# Altium integrated library TI_Logic_Specialty_Logic.IntLib: 2504 symbols (part 8 of 81)
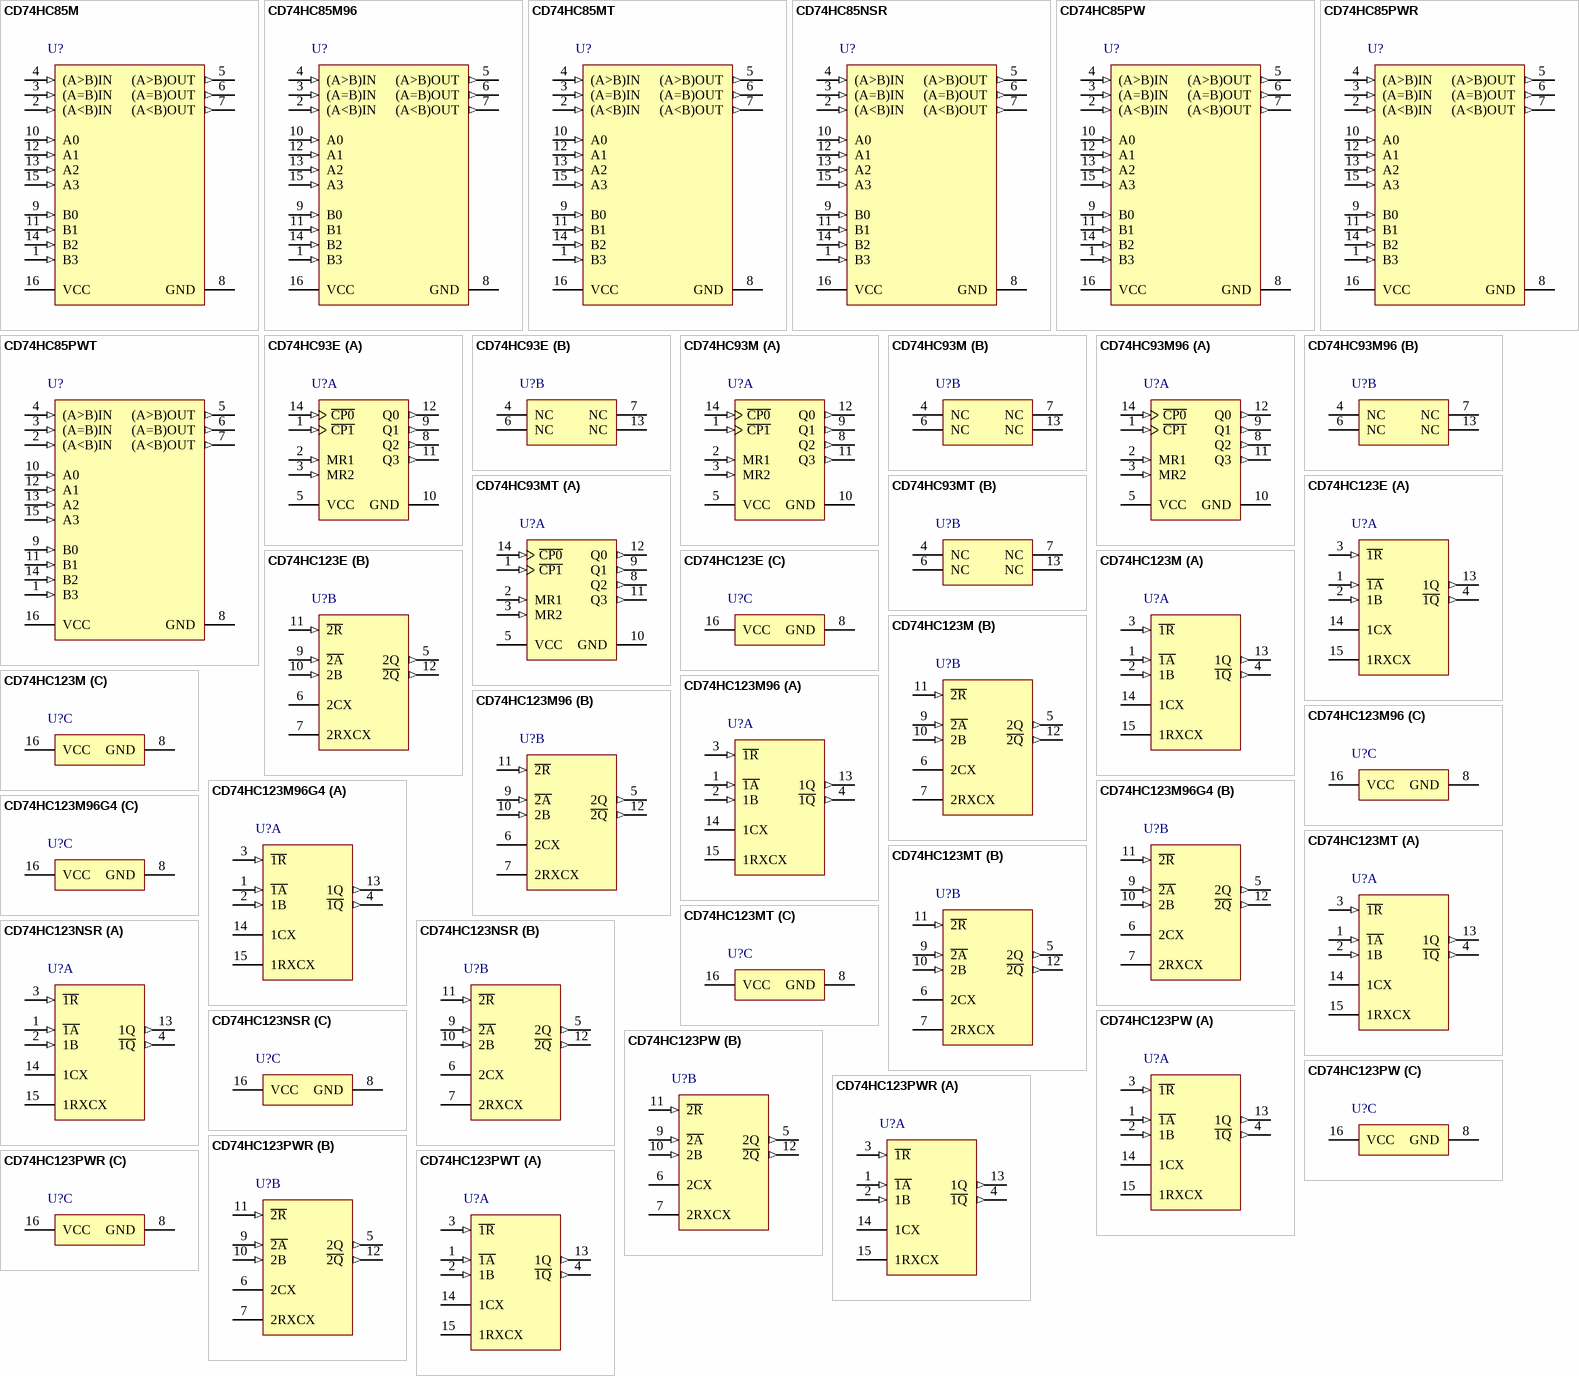
[diagram p111: symbols CD74HC85M to CD74HC123PWT]

## CD74HC123MT
designator U?
High Speed CMOS Logic Dual Retriggerable Monostable Multivibrators with Reset, D0016A, SMALL T&R; Generic Part Number: CD74HC123; Manufacturer: Texas Instruments; PartNumber: CD74HC123MT; VCC(Min)(V): 2; VCC(Max)(V): 6; ICC @ Nom Voltage(Max)(mA): 0.08; Input Type: LVTTL/CMOS; F @ Nom Voltage(Max)(Mhz): 70; Rating: Catalog; Technology Family: HC; Voltage(Nom)(V): 3.3,5; Schmitt Trigger: No; Output Drive (IOL/IOH)(Max)(mA): 5.2/-5.2; tpd @ Nom Voltage(Max)(ns): 68; DatasheetVersion: SCHS142F; PackageReference: D0016A; Supplier 1: Mouser; Supplier Part Number 1: 595-CD74HC123MT; Supplier 2: Digi-Key; Supplier Part Number 2: 296-32053-2-ND; Supplier 3: Digi-Key; Supplier Part Number 3: 296-32053-1-ND; Supplier 4: Digi-Key; Supplier Part Number 4: 296-32053-6-ND; Output Type: CMOS; Bits(#): 2; Operating Temperature Range(C): -55 to 125; Code_JEDEC: MS-012 variation AC; ComponentLink1Description: Manufacturer URL; ComponentLink1URL: http://www.ti.com/; ComponentLink2Description: Datasheet; ComponentLink2URL: http://www.ti.com/lit/ds/symlink/cd74hc123.pdf; ComponentLink3Description: Package Specification; ComponentLink3URL: http://www.ti.com/lit/ml/mpds178g/mpds178g.pdf
footprint D0016A_N (SOIC, 16-Leads, Body 10x4mm, Pitch 1.27mm, IPC Medium Density)
footprint D0016A_M (SOIC, 16-Leads, Body 10x4mm, Pitch 1.27mm, IPC Low Density)
footprint D0016A_L (SOIC, 16-Leads, Body 10x4mm, Pitch 1.27mm, IPC High Density)
part A pins: 1 ~{1A} (in), 2 1B (in), 3 ~{1R} (in), 4 ~{1Q} (out), 13 1Q (out), 14 1CX, 15 1RXCX
part B pins: 5 2Q (out), 6 2CX, 7 2RXCX, 9 ~{2A} (in), 10 2B (in), 11 ~{2R} (in), 12 ~{2Q} (out)
part C pins: 8 GND (power), 16 VCC (power)

## CD74HC123NSR
designator U?
High Speed CMOS Logic Dual Retriggerable Monostable Multivibrators with Reset, NS0016A, LARGE T&R; Generic Part Number: CD74HC123; Manufacturer: Texas Instruments; PartNumber: CD74HC123NSR; VCC(Min)(V): 2; VCC(Max)(V): 6; ICC @ Nom Voltage(Max)(mA): 0.08; Input Type: LVTTL/CMOS; F @ Nom Voltage(Max)(Mhz): 70; Rating: Catalog; Technology Family: HC; Voltage(Nom)(V): 3.3,5; Schmitt Trigger: No; Output Drive (IOL/IOH)(Max)(mA): 5.2/-5.2; tpd @ Nom Voltage(Max)(ns): 68; DatasheetVersion: SCHS142F; PackageReference: NS0016A; Supplier 1: Mouser; Supplier Part Number 1: 595-CD74HC123NSR; Supplier 2: Digi-Key; Supplier Part Number 2: 296-31564-2-ND; Supplier 3: Digi-Key; Supplier Part Number 3: 296-31564-1-ND; Supplier 4: Digi-Key; Supplier Part Number 4: 296-31564-6-ND; Output Type: CMOS; Bits(#): 2; Operating Temperature Range(C): -55 to 125; ComponentLink1Description: Manufacturer URL; ComponentLink1URL: http://www.ti.com/; ComponentLink2Description: Datasheet; ComponentLink2URL: http://www.ti.com/lit/ds/symlink/cd74hc123.pdf; ComponentLink3Description: Package Specification; ComponentLink3URL: http://www.ti.com/lit/ml/msop002a/msop002a.pdf
footprint NS0016A_N (SOIC,16-Leads,Body 10.5x5.6mm,Pitch 1.27mm,IPC Medium Density)
footprint NS0016A_M (SOIC,16-Leads,Body 10.5x5.6mm,Pitch 1.27mm,IPC Low Density)
footprint NS0016A_L (SOIC,16-Leads,Body 10.5x5.6mm,Pitch 1.27mm,IPC High Density)
part A pins: 1 ~{1A} (in), 2 1B (in), 3 ~{1R} (in), 4 ~{1Q} (out), 13 1Q (out), 14 1CX, 15 1RXCX
part B pins: 5 2Q (out), 6 2CX, 7 2RXCX, 9 ~{2A} (in), 10 2B (in), 11 ~{2R} (in), 12 ~{2Q} (out)
part C pins: 8 GND (power), 16 VCC (power)

## CD74HC123PW
designator U?
High Speed CMOS Logic Dual Retriggerable Monostable Multivibrators with Reset, PW0016A, TUBE; Generic Part Number: CD74HC123; Manufacturer: Texas Instruments; PartNumber: CD74HC123PW; VCC(Min)(V): 2; VCC(Max)(V): 6; ICC @ Nom Voltage(Max)(mA): 0.08; Input Type: LVTTL/CMOS; F @ Nom Voltage(Max)(Mhz): 70; Rating: Catalog; Technology Family: HC; Voltage(Nom)(V): 3.3,5; Schmitt Trigger: No; Output Drive (IOL/IOH)(Max)(mA): 5.2/-5.2; tpd @ Nom Voltage(Max)(ns): 68; DatasheetVersion: SCHS142F; PackageReference: PW0016A; Supplier 1: Mouser; Supplier Part Number 1: 595-CD74HC123PW; Supplier 2: Digi-Key; Supplier Part Number 2: 296-25971-5-ND; Output Type: CMOS; Bits(#): 2; Operating Temperature Range(C): -55 to 125; Code_JEDEC: MO-153; ComponentLink1Description: Manufacturer URL; ComponentLink1URL: http://www.ti.com/; ComponentLink2Description: Datasheet; ComponentLink2URL: http://www.ti.com/lit/ds/symlink/cd74hc123.pdf; ComponentLink3Description: Package Specification; ComponentLink3URL: http://www.ti.com/lit/ml/mpds361/mpds361.pdf
footprint PW0016A_N (SOP, 16-Leads, Body 5.1x4.5mm, Pitch 0.65mm, IPC Medium Density)
footprint PW0016A_M (SOP, 16-Leads, Body 5.1x4.5mm, Pitch 0.65mm, IPC Low Density)
footprint PW0016A_L (SOP, 16-Leads, Body 5.1x4.5mm, Pitch 0.65mm, IPC High Density)
part A pins: 1 ~{1A} (in), 2 1B (in), 3 ~{1R} (in), 4 ~{1Q} (out), 13 1Q (out), 14 1CX, 15 1RXCX
part B pins: 5 2Q (out), 6 2CX, 7 2RXCX, 9 ~{2A} (in), 10 2B (in), 11 ~{2R} (in), 12 ~{2Q} (out)
part C pins: 8 GND (power), 16 VCC (power)

## CD74HC123PWR
designator U?
High Speed CMOS Logic Dual Retriggerable Monostable Multivibrators with Reset, PW0016A, LARGE T&R; Generic Part Number: CD74HC123; Manufacturer: Texas Instruments; PartNumber: CD74HC123PWR; VCC(Min)(V): 2; VCC(Max)(V): 6; ICC @ Nom Voltage(Max)(mA): 0.08; Input Type: LVTTL/CMOS; F @ Nom Voltage(Max)(Mhz): 70; Rating: Catalog; Technology Family: HC; Voltage(Nom)(V): 3.3,5; Schmitt Trigger: No; Output Drive (IOL/IOH)(Max)(mA): 5.2/-5.2; tpd @ Nom Voltage(Max)(ns): 68; DatasheetVersion: SCHS142F; PackageReference: PW0016A; Supplier 1: Mouser; Supplier Part Number 1: 595-CD74HC123PWR; Supplier 2: Digi-Key; Supplier Part Number 2: 296-12780-2-ND; Supplier 3: Digi-Key; Supplier Part Number 3: 296-12780-1-ND; Supplier 4: Digi-Key; Supplier Part Number 4: 296-12780-6-ND; Output Type: CMOS; Bits(#): 2; Operating Temperature Range(C): -55 to 125; Code_JEDEC: MO-153; ComponentLink1Description: Manufacturer URL; ComponentLink1URL: http://www.ti.com/; ComponentLink2Description: Datasheet; ComponentLink2URL: http://www.ti.com/lit/ds/symlink/cd74hc123.pdf; ComponentLink3Description: Package Specification; ComponentLink3URL: http://www.ti.com/lit/ml/mpds361/mpds361.pdf
footprint PW0016A_N (SOP, 16-Leads, Body 5.1x4.5mm, Pitch 0.65mm, IPC Medium Density)
footprint PW0016A_M (SOP, 16-Leads, Body 5.1x4.5mm, Pitch 0.65mm, IPC Low Density)
footprint PW0016A_L (SOP, 16-Leads, Body 5.1x4.5mm, Pitch 0.65mm, IPC High Density)
part A pins: 1 ~{1A} (in), 2 1B (in), 3 ~{1R} (in), 4 ~{1Q} (out), 13 1Q (out), 14 1CX, 15 1RXCX
part B pins: 5 2Q (out), 6 2CX, 7 2RXCX, 9 ~{2A} (in), 10 2B (in), 11 ~{2R} (in), 12 ~{2Q} (out)
part C pins: 8 GND (power), 16 VCC (power)

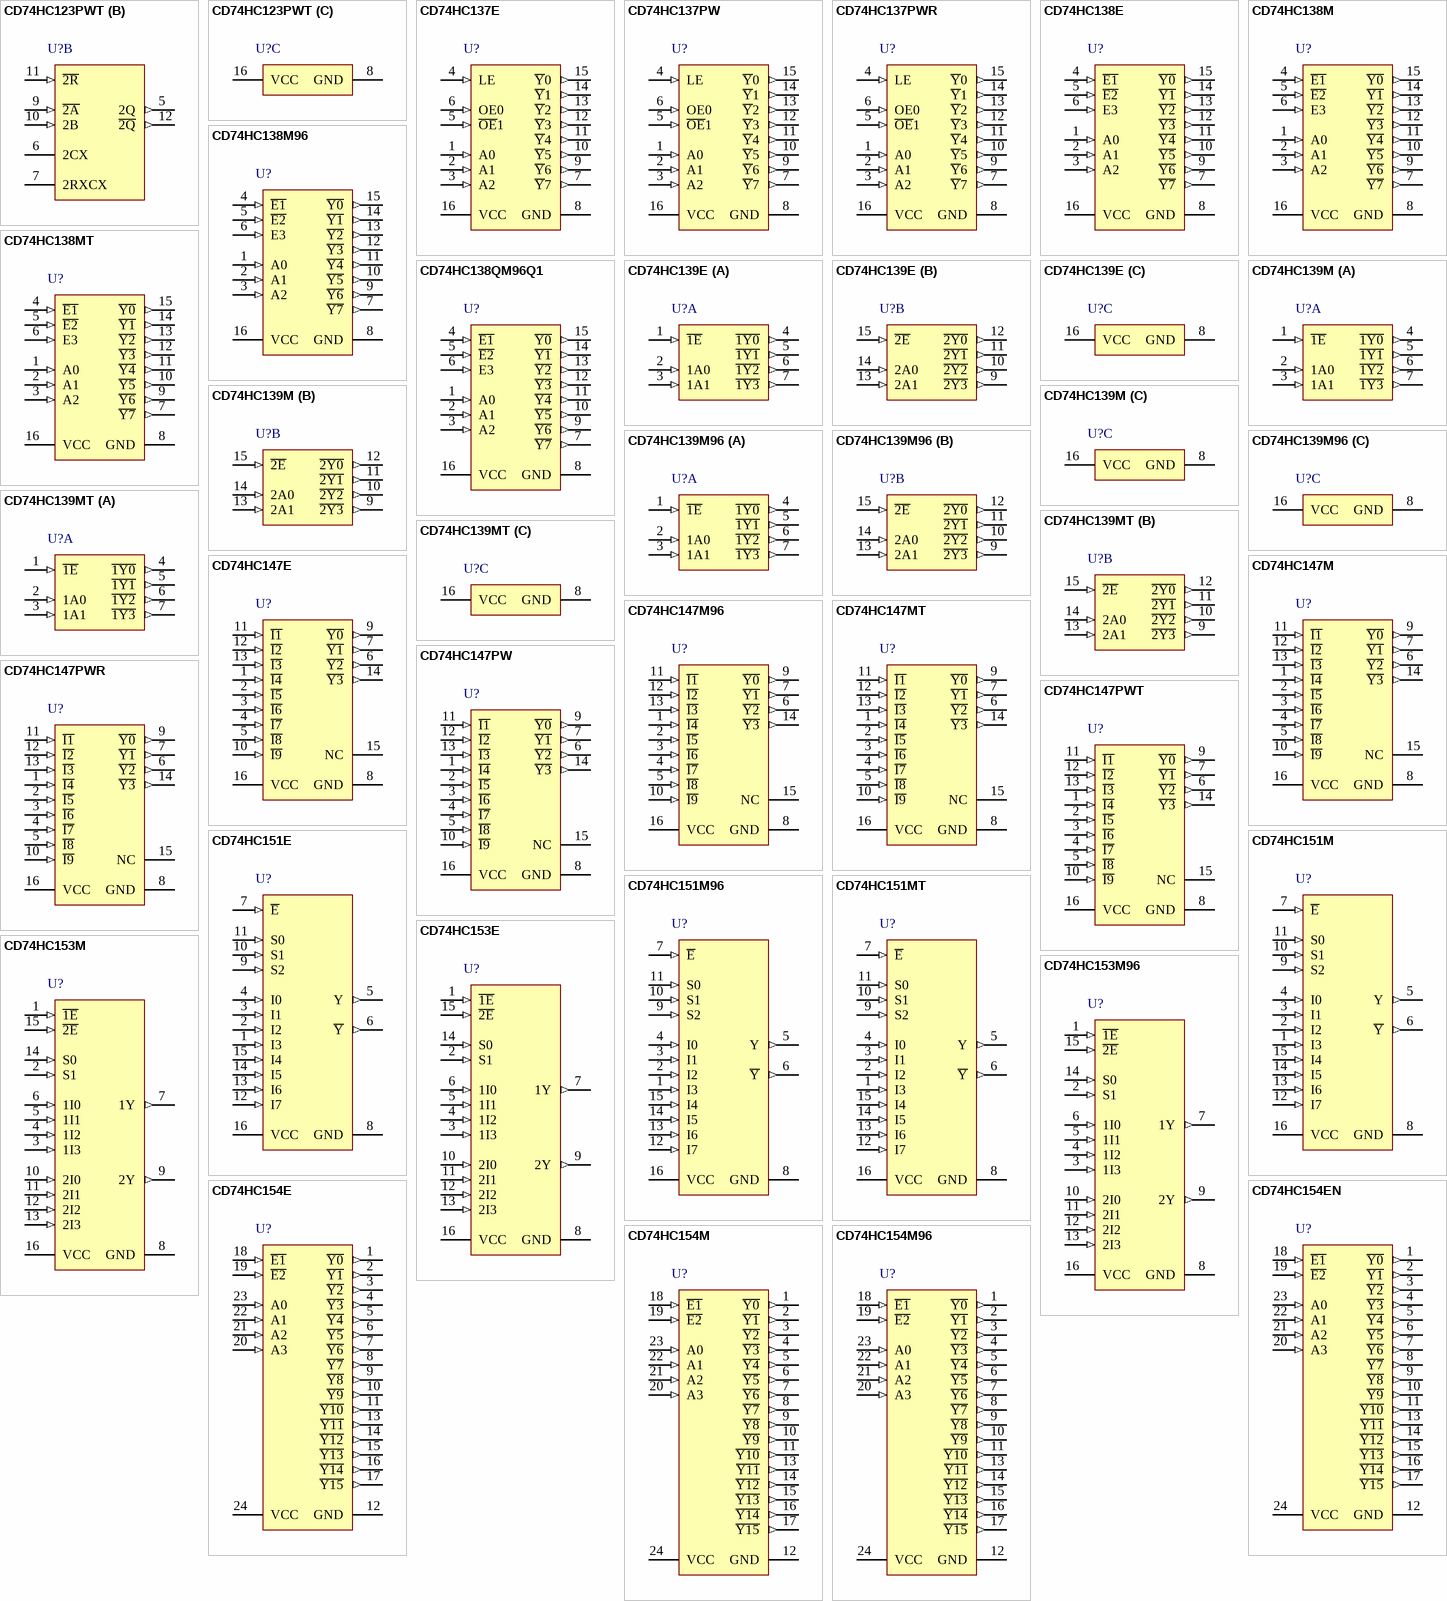
[diagram p10: symbols CD74HC123PWT to CD74HC154M96]

## CD74HC123PWT
designator U?
High Speed CMOS Logic Dual Retriggerable Monostable Multivibrators with Reset, PW0016A, SMALL T&R; Generic Part Number: CD74HC123; Manufacturer: Texas Instruments; PartNumber: CD74HC123PWT; VCC(Min)(V): 2; VCC(Max)(V): 6; ICC @ Nom Voltage(Max)(mA): 0.08; Input Type: LVTTL/CMOS; F @ Nom Voltage(Max)(Mhz): 70; Rating: Catalog; Technology Family: HC; Voltage(Nom)(V): 3.3,5; Schmitt Trigger: No; Output Drive (IOL/IOH)(Max)(mA): 5.2/-5.2; tpd @ Nom Voltage(Max)(ns): 68; DatasheetVersion: SCHS142F; PackageReference: PW0016A; Supplier 1: Mouser; Supplier Part Number 1: 595-CD74HC123PWT; Supplier 2: Digi-Key; Supplier Part Number 2: CD74HC123PWT-ND; Output Type: CMOS; Bits(#): 2; Operating Temperature Range(C): -55 to 125; Code_JEDEC: MO-153; ComponentLink1Description: Manufacturer URL; ComponentLink1URL: http://www.ti.com/; ComponentLink2Description: Datasheet; ComponentLink2URL: http://www.ti.com/lit/ds/symlink/cd74hc123.pdf; ComponentLink3Description: Package Specification; ComponentLink3URL: http://www.ti.com/lit/ml/mpds361/mpds361.pdf
footprint PW0016A_N (SOP, 16-Leads, Body 5.1x4.5mm, Pitch 0.65mm, IPC Medium Density)
footprint PW0016A_M (SOP, 16-Leads, Body 5.1x4.5mm, Pitch 0.65mm, IPC Low Density)
footprint PW0016A_L (SOP, 16-Leads, Body 5.1x4.5mm, Pitch 0.65mm, IPC High Density)
part A pins: 1 ~{1A} (in), 2 1B (in), 3 ~{1R} (in), 4 ~{1Q} (out), 13 1Q (out), 14 1CX, 15 1RXCX
part B pins: 5 2Q (out), 6 2CX, 7 2RXCX, 9 ~{2A} (in), 10 2B (in), 11 ~{2R} (in), 12 ~{2Q} (out)
part C pins: 8 GND (power), 16 VCC (power)

## CD74HC137E
designator U?
High Speed CMOS Logic 3-to-8 Line Decoder Demultiplexer with Address Latches, N0016A, TUBE; Generic Part Number: CD74HC137; Manufacturer: Texas Instruments; PartNumber: CD74HC137E; VCC(Min)(V): 2; VCC(Max)(V): 6; Function: Decoder/Demultiplexer; ICC @ Nom Voltage(Max)(mA): 0.08; Input Type: LVTTL/CMOS; Bits(#): 8; F @ Nom Voltage(Max)(Mhz): 28; Configuration: 3：8; Channels(#): 1; Rating: Catalog; Technology Family: HC; Voltage(Nom)(V): 3.3,5; Schmitt Trigger: No; Output Drive (IOL/IOH)(Max)(mA): 5.2/-5.2; tpd @ Nom Voltage(Max)(ns): 36; DatasheetVersion: SCHS146F; PackageReference: N0016A; Supplier 1: Mouser; Supplier Part Number 1: 595-CD74HC137E; Supplier 2: Digi-Key; Supplier Part Number 2: 296-9176-5-ND; Output Type: CMOS; Operating Temperature Range(C): -55 to 125; Type: Standard; Code_JEDEC: MS-001; ComponentLink1Description: Manufacturer URL; ComponentLink1URL: http://www.ti.com/; ComponentLink2Description: Datasheet; ComponentLink2URL: http://www.ti.com/lit/ds/symlink/cd74hc137.pdf; ComponentLink3Description: Package Specification; ComponentLink3URL: http://www.ti.com/lit/ml/mpdi002c/mpdi002c.pdf
footprint N0016A (DIP, 16-Leads, Body 19.7x6.6mm, Pitch 2.54mm)
pins: 1 A0 (in), 2 A1 (in), 3 A2 (in), 4 LE (in), 5 ~{OE}1 (in), 6 OE0 (in), 7 ~{Y}7 (out), 8 GND (power), 9 ~{Y}6 (out), 10 ~{Y}5 (out), 11 ~{Y}4 (out), 12 ~{Y}3 (out), 13 ~{Y}2 (out), 14 ~{Y}1 (out), 15 ~{Y}0 (out), 16 VCC (power)

## CD74HC137PW
designator U?
High Speed CMOS Logic 3-to-8 Line Decoder Demultiplexer with Address Latches, PW0016A, TUBE; Generic Part Number: CD74HC137; Manufacturer: Texas Instruments; PartNumber: CD74HC137PW; VCC(Min)(V): 2; VCC(Max)(V): 6; Function: Decoder/Demultiplexer; ICC @ Nom Voltage(Max)(mA): 0.08; Input Type: LVTTL/CMOS; Bits(#): 8; F @ Nom Voltage(Max)(Mhz): 28; Configuration: 3：8; Channels(#): 1; Rating: Catalog; Technology Family: HC; Voltage(Nom)(V): 3.3,5; Schmitt Trigger: No; Output Drive (IOL/IOH)(Max)(mA): 5.2/-5.2; tpd @ Nom Voltage(Max)(ns): 36; DatasheetVersion: SCHS146F; PackageReference: PW0016A; Supplier 1: Mouser; Supplier Part Number 1: 595-CD74HC137PW; Supplier 2: Digi-Key; Supplier Part Number 2: 296-33022-5-ND; Output Type: CMOS; Operating Temperature Range(C): -55 to 125; Type: Standard; Code_JEDEC: MO-153; ComponentLink1Description: Manufacturer URL; ComponentLink1URL: http://www.ti.com/; ComponentLink2Description: Datasheet; ComponentLink2URL: http://www.ti.com/lit/ds/symlink/cd74hc137.pdf; ComponentLink3Description: Package Specification; ComponentLink3URL: http://www.ti.com/lit/ml/mpds361/mpds361.pdf
footprint PW0016A_N (SOP, 16-Leads, Body 5.1x4.5mm, Pitch 0.65mm, IPC Medium Density)
footprint PW0016A_M (SOP, 16-Leads, Body 5.1x4.5mm, Pitch 0.65mm, IPC Low Density)
footprint PW0016A_L (SOP, 16-Leads, Body 5.1x4.5mm, Pitch 0.65mm, IPC High Density)
pins: 1 A0 (in), 2 A1 (in), 3 A2 (in), 4 LE (in), 5 ~{OE}1 (in), 6 OE0 (in), 7 ~{Y}7 (out), 8 GND (power), 9 ~{Y}6 (out), 10 ~{Y}5 (out), 11 ~{Y}4 (out), 12 ~{Y}3 (out), 13 ~{Y}2 (out), 14 ~{Y}1 (out), 15 ~{Y}0 (out), 16 VCC (power)

## CD74HC137PWR
designator U?
High Speed CMOS Logic 3-to-8 Line Decoder Demultiplexer with Address Latches, PW0016A, LARGE T&R; Generic Part Number: CD74HC137; Manufacturer: Texas Instruments; PartNumber: CD74HC137PWR; VCC(Min)(V): 2; VCC(Max)(V): 6; Function: Decoder/Demultiplexer; ICC @ Nom Voltage(Max)(mA): 0.08; Input Type: LVTTL/CMOS; Bits(#): 8; F @ Nom Voltage(Max)(Mhz): 28; Configuration: 3：8; Channels(#): 1; Rating: Catalog; Technology Family: HC; Voltage(Nom)(V): 3.3,5; Schmitt Trigger: No; Output Drive (IOL/IOH)(Max)(mA): 5.2/-5.2; tpd @ Nom Voltage(Max)(ns): 36; DatasheetVersion: SCHS146F; PackageReference: PW0016A; Supplier 1: Mouser; Supplier Part Number 1: 595-CD74HC137PWR; Supplier 2: Digi-Key; Supplier Part Number 2: 296-38065-2-ND; Supplier 3: Digi-Key; Supplier Part Number 3: 296-38065-1-ND; Supplier 4: Digi-Key; Supplier Part Number 4: 296-38065-6-ND; Output Type: CMOS; Operating Temperature Range(C): -55 to 125; Type: Standard; Code_JEDEC: MO-153; ComponentLink1Description: Manufacturer URL; ComponentLink1URL: http://www.ti.com/; ComponentLink2Description: Datasheet; ComponentLink2URL: http://www.ti.com/lit/ds/symlink/cd74hc137.pdf; ComponentLink3Description: Package Specification; ComponentLink3URL: http://www.ti.com/lit/ml/mpds361/mpds361.pdf
footprint PW0016A_N (SOP, 16-Leads, Body 5.1x4.5mm, Pitch 0.65mm, IPC Medium Density)
footprint PW0016A_M (SOP, 16-Leads, Body 5.1x4.5mm, Pitch 0.65mm, IPC Low Density)
footprint PW0016A_L (SOP, 16-Leads, Body 5.1x4.5mm, Pitch 0.65mm, IPC High Density)
pins: 1 A0 (in), 2 A1 (in), 3 A2 (in), 4 LE (in), 5 ~{OE}1 (in), 6 OE0 (in), 7 ~{Y}7 (out), 8 GND (power), 9 ~{Y}6 (out), 10 ~{Y}5 (out), 11 ~{Y}4 (out), 12 ~{Y}3 (out), 13 ~{Y}2 (out), 14 ~{Y}1 (out), 15 ~{Y}0 (out), 16 VCC (power)

## CD74HC138E
designator U?
High Speed CMOS Logic 3-to-8 Line Decoder Demultiplexer Inverting and Non-Inverting, N0016A, TUBE; Generic Part Number: CD74HC138; Manufacturer: Texas Instruments; PartNumber: CD74HC138E; VCC(Min)(V): 2; VCC(Max)(V): 6; Function: Decoder/Demultiplexer; ICC @ Nom Voltage(Max)(mA): 0.08; Input Type: LVTTL/CMOS; Bits(#): 8; F @ Nom Voltage(Max)(Mhz): 28; Configuration: 3：8; Channels(#): 1; Rating: Catalog; Technology Family: HC; Voltage(Nom)(V): 3.3,5; Schmitt Trigger: No; Output Drive (IOL/IOH)(Max)(mA): 5.2/-5.2; tpd @ Nom Voltage(Max)(ns): 30; DatasheetVersion: SCHS147I; PackageReference: N0016A; Supplier 1: Mouser; Supplier Part Number 1: 595-CD74HC138E; Supplier 2: Digi-Key; Supplier Part Number 2: 296-12785-5-ND; Output Type: CMOS; Operating Temperature Range(C): -55 to 125; Type: Standard; Code_JEDEC: MS-001; ComponentLink1Description: Manufacturer URL; ComponentLink1URL: http://www.ti.com/; ComponentLink2Description: Datasheet; ComponentLink2URL: http://www.ti.com/lit/ds/symlink/cd74hc138.pdf; ComponentLink3Description: Package Specification; ComponentLink3URL: http://www.ti.com/lit/ml/mpdi002c/mpdi002c.pdf
footprint N0016A (DIP, 16-Leads, Body 19.7x6.6mm, Pitch 2.54mm)
pins: 1 A0 (in), 2 A1 (in), 3 A2 (in), 4 ~{E1} (in), 5 ~{E2} (in), 6 E3 (in), 7 ~{Y7} (out), 8 GND (power), 9 ~{Y6} (out), 10 ~{Y5} (out), 11 ~{Y4} (out), 12 ~{Y3} (out), 13 ~{Y2} (out), 14 ~{Y1} (out), 15 ~{Y0} (out), 16 VCC (power)

## CD74HC138M
designator U?
High Speed CMOS Logic 3-to-8 Line Decoder Demultiplexer Inverting and Non-Inverting, D0016A, TUBE; Generic Part Number: CD74HC138; Manufacturer: Texas Instruments; PartNumber: CD74HC138M; VCC(Min)(V): 2; VCC(Max)(V): 6; Function: Decoder/Demultiplexer; ICC @ Nom Voltage(Max)(mA): 0.08; Input Type: LVTTL/CMOS; Bits(#): 8; F @ Nom Voltage(Max)(Mhz): 28; Configuration: 3：8; Channels(#): 1; Rating: Catalog; Technology Family: HC; Voltage(Nom)(V): 3.3,5; Schmitt Trigger: No; Output Drive (IOL/IOH)(Max)(mA): 5.2/-5.2; tpd @ Nom Voltage(Max)(ns): 30; DatasheetVersion: SCHS147I; PackageReference: D0016A; Supplier 1: Mouser; Supplier Part Number 1: 595-CD74HC138M; Supplier 2: Digi-Key; Supplier Part Number 2: 296-9177-5-ND; Output Type: CMOS; Operating Temperature Range(C): -55 to 125; Type: Standard; Code_JEDEC: MS-012 variation AC; ComponentLink1Description: Manufacturer URL; ComponentLink1URL: http://www.ti.com/; ComponentLink2Description: Datasheet; ComponentLink2URL: http://www.ti.com/lit/ds/symlink/cd74hc138.pdf; ComponentLink3Description: Package Specification; ComponentLink3URL: http://www.ti.com/lit/ml/mpds178g/mpds178g.pdf
footprint D0016A_N (SOIC, 16-Leads, Body 10x4mm, Pitch 1.27mm, IPC Medium Density)
footprint D0016A_M (SOIC, 16-Leads, Body 10x4mm, Pitch 1.27mm, IPC Low Density)
footprint D0016A_L (SOIC, 16-Leads, Body 10x4mm, Pitch 1.27mm, IPC High Density)
pins: 1 A0 (in), 2 A1 (in), 3 A2 (in), 4 ~{E1} (in), 5 ~{E2} (in), 6 E3 (in), 7 ~{Y7} (out), 8 GND (power), 9 ~{Y6} (out), 10 ~{Y5} (out), 11 ~{Y4} (out), 12 ~{Y3} (out), 13 ~{Y2} (out), 14 ~{Y1} (out), 15 ~{Y0} (out), 16 VCC (power)

## CD74HC138M96
designator U?
High Speed CMOS Logic 3-to-8 Line Decoder Demultiplexer Inverting and Non-Inverting, D0016A, LARGE T&R; Generic Part Number: CD74HC138; Manufacturer: Texas Instruments; PartNumber: CD74HC138M96; VCC(Min)(V): 2; VCC(Max)(V): 6; Function: Decoder/Demultiplexer; ICC @ Nom Voltage(Max)(mA): 0.08; Input Type: LVTTL/CMOS; Bits(#): 8; F @ Nom Voltage(Max)(Mhz): 28; Configuration: 3：8; Channels(#): 1; Rating: Catalog; Technology Family: HC; Voltage(Nom)(V): 3.3,5; Schmitt Trigger: No; Output Drive (IOL/IOH)(Max)(mA): 5.2/-5.2; tpd @ Nom Voltage(Max)(ns): 30; DatasheetVersion: SCHS147I; PackageReference: D0016A; Supplier 1: Mouser; Supplier Part Number 1: 595-CD74HC138M96; Supplier 2: Digi-Key; Supplier Part Number 2: 296-14511-2-ND; Supplier 3: Digi-Key; Supplier Part Number 3: 296-14511-1-ND; Supplier 4: Digi-Key; Supplier Part Number 4: 296-14511-6-ND; Output Type: CMOS; Operating Temperature Range(C): -55 to 125; Type: Standard; Code_JEDEC: MS-012 variation AC; ComponentLink1Description: Manufacturer URL; ComponentLink1URL: http://www.ti.com/; ComponentLink2Description: Datasheet; ComponentLink2URL: http://www.ti.com/lit/ds/symlink/cd74hc138.pdf; ComponentLink3Description: Package Specification; ComponentLink3URL: http://www.ti.com/lit/ml/mpds178g/mpds178g.pdf
footprint D0016A_N (SOIC, 16-Leads, Body 10x4mm, Pitch 1.27mm, IPC Medium Density)
footprint D0016A_M (SOIC, 16-Leads, Body 10x4mm, Pitch 1.27mm, IPC Low Density)
footprint D0016A_L (SOIC, 16-Leads, Body 10x4mm, Pitch 1.27mm, IPC High Density)
pins: 1 A0 (in), 2 A1 (in), 3 A2 (in), 4 ~{E1} (in), 5 ~{E2} (in), 6 E3 (in), 7 ~{Y7} (out), 8 GND (power), 9 ~{Y6} (out), 10 ~{Y5} (out), 11 ~{Y4} (out), 12 ~{Y3} (out), 13 ~{Y2} (out), 14 ~{Y1} (out), 15 ~{Y0} (out), 16 VCC (power)

## CD74HC138MT
designator U?
High Speed CMOS Logic 3-to-8 Line Decoder Demultiplexer Inverting and Non-Inverting, D0016A, SMALL T&R; Generic Part Number: CD74HC138; Manufacturer: Texas Instruments; PartNumber: CD74HC138MT; VCC(Min)(V): 2; VCC(Max)(V): 6; Function: Decoder/Demultiplexer; ICC @ Nom Voltage(Max)(mA): 0.08; Input Type: LVTTL/CMOS; Bits(#): 8; F @ Nom Voltage(Max)(Mhz): 28; Configuration: 3：8; Channels(#): 1; Rating: Catalog; Technology Family: HC; Voltage(Nom)(V): 3.3,5; Schmitt Trigger: No; Output Drive (IOL/IOH)(Max)(mA): 5.2/-5.2; tpd @ Nom Voltage(Max)(ns): 30; DatasheetVersion: SCHS147I; PackageReference: D0016A; Supplier 1: Mouser; Supplier Part Number 1: 595-CD74HC138MT; Supplier 2: Digi-Key; Supplier Part Number 2: CD74HC138MT-ND; Output Type: CMOS; Operating Temperature Range(C): -55 to 125; Type: Standard; Code_JEDEC: MS-012 variation AC; ComponentLink1Description: Manufacturer URL; ComponentLink1URL: http://www.ti.com/; ComponentLink2Description: Datasheet; ComponentLink2URL: http://www.ti.com/lit/ds/symlink/cd74hc138.pdf; ComponentLink3Description: Package Specification; ComponentLink3URL: http://www.ti.com/lit/ml/mpds178g/mpds178g.pdf
footprint D0016A_N (SOIC, 16-Leads, Body 10x4mm, Pitch 1.27mm, IPC Medium Density)
footprint D0016A_M (SOIC, 16-Leads, Body 10x4mm, Pitch 1.27mm, IPC Low Density)
footprint D0016A_L (SOIC, 16-Leads, Body 10x4mm, Pitch 1.27mm, IPC High Density)
pins: 1 A0 (in), 2 A1 (in), 3 A2 (in), 4 ~{E1} (in), 5 ~{E2} (in), 6 E3 (in), 7 ~{Y7} (out), 8 GND (power), 9 ~{Y6} (out), 10 ~{Y5} (out), 11 ~{Y4} (out), 12 ~{Y3} (out), 13 ~{Y2} (out), 14 ~{Y1} (out), 15 ~{Y0} (out), 16 VCC (power)

## CD74HC138QM96Q1
designator U?
Automotive Catalog High Speed CMOS Logic 3-to-8 Line Decoder Demultiplexer Inverting and Non-Invert, D0016A, LARGE T&R; Generic Part Number: CD74HC138-Q1; Manufacturer: Texas Instruments; PartNumber: CD74HC138QM96Q1; VCC(Min)(V): 2; VCC(Max)(V): 6; ICC @ Nom Voltage(Max)(mA): 0.08; Input Type: LVTTL/CMOS; Bits(#): 8; F @ Nom Voltage(Max)(Mhz): 28; Channels(#): 1; Technology Family: HC; Voltage(Nom)(V): 3.3,5; Schmitt Trigger: No; Output Drive (IOL/IOH)(Max)(mA): 5.2/-5.2; tpd @ Nom Voltage(Max)(ns): 30; DatasheetVersion: SCLS580A; PackageReference: D0016A; Supplier 1: Mouser; Supplier Part Number 1: 595-CD74HC138QM96Q1; Supplier 2: Digi-Key; Supplier Part Number 2: 296-31565-2-ND; Supplier 3: Digi-Key; Supplier Part Number 3: 296-31565-1-ND; Supplier 4: Digi-Key; Supplier Part Number 4: 296-31565-6-ND; Output Type: CMOS; Operating Temperature Range(C): -40 to 125; Rating: Automotive; Code_JEDEC: MS-012 variation AC; ComponentLink1Description: Manufacturer URL; ComponentLink1URL: http://www.ti.com/; ComponentLink2Description: Datasheet; ComponentLink2URL: http://www.ti.com/lit/ds/symlink/cd74hc138-q1.pdf; ComponentLink3Description: Package Specification; ComponentLink3URL: http://www.ti.com/lit/ml/mpds178g/mpds178g.pdf
footprint D0016A_N (SOIC, 16-Leads, Body 10x4mm, Pitch 1.27mm, IPC Medium Density)
footprint D0016A_M (SOIC, 16-Leads, Body 10x4mm, Pitch 1.27mm, IPC Low Density)
footprint D0016A_L (SOIC, 16-Leads, Body 10x4mm, Pitch 1.27mm, IPC High Density)
pins: 1 A0 (in), 2 A1 (in), 3 A2 (in), 4 ~{E1} (in), 5 ~{E2} (in), 6 E3 (in), 7 ~{Y7} (out), 8 GND (power), 9 ~{Y6} (out), 10 ~{Y5} (out), 11 ~{Y4} (out), 12 ~{Y3} (out), 13 ~{Y2} (out), 14 ~{Y1} (out), 15 ~{Y0} (out), 16 VCC (power)

## CD74HC139E
designator U?
High Speed CMOS Logic Dual 2-to-4 Line Decoders/Demultiplexers, N0016A, TUBE; Generic Part Number: CD74HC139; Manufacturer: Texas Instruments; PartNumber: CD74HC139E; VCC(Min)(V): 2; VCC(Max)(V): 6; Function: Decoder/Demultiplexer; ICC @ Nom Voltage(Max)(mA): 0.08; Input Type: LVTTL/CMOS; Bits(#): 4; F @ Nom Voltage(Max)(Mhz): 28; Configuration: 2：4; Rating: Catalog; Technology Family: HC; Voltage(Nom)(V): 3.3,5; Schmitt Trigger: No; Output Drive (IOL/IOH)(Max)(mA): 5.2/-5.2; tpd @ Nom Voltage(Max)(ns): 36; DatasheetVersion: SCHS148D; PackageReference: N0016A; Supplier 1: Mouser; Supplier Part Number 1: 595-CD74HC139E; Supplier 2: Digi-Key; Supplier Part Number 2: 296-33023-5-ND; Output Type: CMOS; Operating Temperature Range(C): -55 to 125; Type: Standard; Channels(#): 2; Code_JEDEC: MS-001; ComponentLink1Description: Manufacturer URL; ComponentLink1URL: http://www.ti.com/; ComponentLink2Description: Datasheet; ComponentLink2URL: http://www.ti.com/lit/ds/symlink/cd74hc139.pdf; ComponentLink3Description: Package Specification; ComponentLink3URL: http://www.ti.com/lit/ml/mpdi002c/mpdi002c.pdf
footprint N0016A (DIP, 16-Leads, Body 19.7x6.6mm, Pitch 2.54mm)
part A pins: 1 ~{1E} (in), 2 1A0 (in), 3 1A1 (in), 4 ~{1Y0} (out), 5 ~{1Y1} (out), 6 ~{1Y2} (out), 7 ~{1Y3} (out)
part B pins: 9 ~{2Y3} (out), 10 ~{2Y2} (out), 11 ~{2Y1} (out), 12 ~{2Y0} (out), 13 2A1 (in), 14 2A0 (in), 15 ~{2E} (in)
part C pins: 8 GND (power), 16 VCC (power)

## CD74HC139M
designator U?
High Speed CMOS Logic Dual 2-to-4 Line Decoders/Demultiplexers, D0016A, TUBE; Generic Part Number: CD74HC139; Manufacturer: Texas Instruments; PartNumber: CD74HC139M; VCC(Min)(V): 2; VCC(Max)(V): 6; Function: Decoder/Demultiplexer; ICC @ Nom Voltage(Max)(mA): 0.08; Input Type: LVTTL/CMOS; Bits(#): 4; F @ Nom Voltage(Max)(Mhz): 28; Configuration: 2：4; Rating: Catalog; Technology Family: HC; Voltage(Nom)(V): 3.3,5; Schmitt Trigger: No; Output Drive (IOL/IOH)(Max)(mA): 5.2/-5.2; tpd @ Nom Voltage(Max)(ns): 36; DatasheetVersion: SCHS148D; PackageReference: D0016A; Supplier 1: Mouser; Supplier Part Number 1: 595-CD74HC139M; Supplier 2: Digi-Key; Supplier Part Number 2: 296-25972-5-ND; Output Type: CMOS; Operating Temperature Range(C): -55 to 125; Type: Standard; Channels(#): 2; Code_JEDEC: MS-012 variation AC; ComponentLink1Description: Manufacturer URL; ComponentLink1URL: http://www.ti.com/; ComponentLink2Description: Datasheet; ComponentLink2URL: http://www.ti.com/lit/ds/symlink/cd74hc139.pdf; ComponentLink3Description: Package Specification; ComponentLink3URL: http://www.ti.com/lit/ml/mpds178g/mpds178g.pdf
footprint D0016A_N (SOIC, 16-Leads, Body 10x4mm, Pitch 1.27mm, IPC Medium Density)
footprint D0016A_M (SOIC, 16-Leads, Body 10x4mm, Pitch 1.27mm, IPC Low Density)
footprint D0016A_L (SOIC, 16-Leads, Body 10x4mm, Pitch 1.27mm, IPC High Density)
part A pins: 1 ~{1E} (in), 2 1A0 (in), 3 1A1 (in), 4 ~{1Y0} (out), 5 ~{1Y1} (out), 6 ~{1Y2} (out), 7 ~{1Y3} (out)
part B pins: 9 ~{2Y3} (out), 10 ~{2Y2} (out), 11 ~{2Y1} (out), 12 ~{2Y0} (out), 13 2A1 (in), 14 2A0 (in), 15 ~{2E} (in)
part C pins: 8 GND (power), 16 VCC (power)

## CD74HC139M96
designator U?
High Speed CMOS Logic Dual 2-to-4 Line Decoders/Demultiplexers, D0016A, LARGE T&R; Generic Part Number: CD74HC139; Manufacturer: Texas Instruments; PartNumber: CD74HC139M96; VCC(Min)(V): 2; VCC(Max)(V): 6; Function: Decoder/Demultiplexer; ICC @ Nom Voltage(Max)(mA): 0.08; Input Type: LVTTL/CMOS; Bits(#): 4; F @ Nom Voltage(Max)(Mhz): 28; Configuration: 2：4; Rating: Catalog; Technology Family: HC; Voltage(Nom)(V): 3.3,5; Schmitt Trigger: No; Output Drive (IOL/IOH)(Max)(mA): 5.2/-5.2; tpd @ Nom Voltage(Max)(ns): 36; DatasheetVersion: SCHS148D; PackageReference: D0016A; Supplier 1: Mouser; Supplier Part Number 1: 595-CD74HC139M96; Supplier 2: Digi-Key; Supplier Part Number 2: 296-14512-2-ND; Supplier 3: Digi-Key; Supplier Part Number 3: 296-14512-1-ND; Supplier 4: Digi-Key; Supplier Part Number 4: 296-14512-6-ND; Output Type: CMOS; Operating Temperature Range(C): -55 to 125; Type: Standard; Channels(#): 2; Code_JEDEC: MS-012 variation AC; ComponentLink1Description: Manufacturer URL; ComponentLink1URL: http://www.ti.com/; ComponentLink2Description: Datasheet; ComponentLink2URL: http://www.ti.com/lit/ds/symlink/cd74hc139.pdf; ComponentLink3Description: Package Specification; ComponentLink3URL: http://www.ti.com/lit/ml/mpds178g/mpds178g.pdf
footprint D0016A_N (SOIC, 16-Leads, Body 10x4mm, Pitch 1.27mm, IPC Medium Density)
footprint D0016A_M (SOIC, 16-Leads, Body 10x4mm, Pitch 1.27mm, IPC Low Density)
footprint D0016A_L (SOIC, 16-Leads, Body 10x4mm, Pitch 1.27mm, IPC High Density)
part A pins: 1 ~{1E} (in), 2 1A0 (in), 3 1A1 (in), 4 ~{1Y0} (out), 5 ~{1Y1} (out), 6 ~{1Y2} (out), 7 ~{1Y3} (out)
part B pins: 9 ~{2Y3} (out), 10 ~{2Y2} (out), 11 ~{2Y1} (out), 12 ~{2Y0} (out), 13 2A1 (in), 14 2A0 (in), 15 ~{2E} (in)
part C pins: 8 GND (power), 16 VCC (power)

## CD74HC139MT
designator U?
High Speed CMOS Logic Dual 2-to-4 Line Decoders/Demultiplexers, D0016A, SMALL T&R; Generic Part Number: CD74HC139; Manufacturer: Texas Instruments; PartNumber: CD74HC139MT; VCC(Min)(V): 2; VCC(Max)(V): 6; Function: Decoder/Demultiplexer; ICC @ Nom Voltage(Max)(mA): 0.08; Input Type: LVTTL/CMOS; Bits(#): 4; F @ Nom Voltage(Max)(Mhz): 28; Configuration: 2：4; Rating: Catalog; Technology Family: HC; Voltage(Nom)(V): 3.3,5; Schmitt Trigger: No; Output Drive (IOL/IOH)(Max)(mA): 5.2/-5.2; tpd @ Nom Voltage(Max)(ns): 36; DatasheetVersion: SCHS148D; PackageReference: D0016A; Supplier 1: Mouser; Supplier Part Number 1: 595-CD74HC139MT; Supplier 2: Digi-Key; Supplier Part Number 2: CD74HC139MT-ND; Output Type: CMOS; Operating Temperature Range(C): -55 to 125; Type: Standard; Channels(#): 2; Code_JEDEC: MS-012 variation AC; ComponentLink1Description: Manufacturer URL; ComponentLink1URL: http://www.ti.com/; ComponentLink2Description: Datasheet; ComponentLink2URL: http://www.ti.com/lit/ds/symlink/cd74hc139.pdf; ComponentLink3Description: Package Specification; ComponentLink3URL: http://www.ti.com/lit/ml/mpds178g/mpds178g.pdf
footprint D0016A_N (SOIC, 16-Leads, Body 10x4mm, Pitch 1.27mm, IPC Medium Density)
footprint D0016A_M (SOIC, 16-Leads, Body 10x4mm, Pitch 1.27mm, IPC Low Density)
footprint D0016A_L (SOIC, 16-Leads, Body 10x4mm, Pitch 1.27mm, IPC High Density)
part A pins: 1 ~{1E} (in), 2 1A0 (in), 3 1A1 (in), 4 ~{1Y0} (out), 5 ~{1Y1} (out), 6 ~{1Y2} (out), 7 ~{1Y3} (out)
part B pins: 9 ~{2Y3} (out), 10 ~{2Y2} (out), 11 ~{2Y1} (out), 12 ~{2Y0} (out), 13 2A1 (in), 14 2A0 (in), 15 ~{2E} (in)
part C pins: 8 GND (power), 16 VCC (power)

## CD74HC147E
designator U?
High Speed CMOS Logic 10-to-4 Line Priority Encoder, N0016A, TUBE; Generic Part Number: CD74HC147; Manufacturer: Texas Instruments; PartNumber: CD74HC147E; VCC(Min)(V): 2; VCC(Max)(V): 6; Function: Encoder/Multiplexer; ICC @ Nom Voltage(Max)(mA): 0.08; Input Type: LVTTL/CMOS; Bits(#): 10; F @ Nom Voltage(Max)(Mhz): 28; Configuration: 10：4; Channels(#): 1; Rating: Catalog; Technology Family: HC; Voltage(Nom)(V): 3.3,5; Schmitt Trigger: No; Output Drive (IOL/IOH)(Max)(mA): 5.2/-5.2; tpd @ Nom Voltage(Max)(ns): 32; DatasheetVersion: SCHS149F; PackageReference: N0016A; Supplier 1: Mouser; Supplier Part Number 1: 595-CD74HC147E; Supplier 2: Digi-Key; Supplier Part Number 2: 296-14513-5-ND; Output Type: CMOS; Operating Temperature Range(C): -55 to 125; Type: Standard; Code_JEDEC: MS-001; ComponentLink1Description: Manufacturer URL; ComponentLink1URL: http://www.ti.com/; ComponentLink2Description: Datasheet; ComponentLink2URL: http://www.ti.com/lit/ds/symlink/cd74hc147.pdf; ComponentLink3Description: Package Specification; ComponentLink3URL: http://www.ti.com/lit/ml/mpdi002c/mpdi002c.pdf
footprint N0016A (DIP, 16-Leads, Body 19.7x6.6mm, Pitch 2.54mm)
pins: 1 ~{I4} (in), 2 ~{I5} (in), 3 ~{I6} (in), 4 ~{I7} (in), 5 ~{I8} (in), 6 ~{Y2} (out), 7 ~{Y1} (out), 8 GND (power), 9 ~{Y0} (out), 10 ~{I9} (in), 11 ~{I1} (in), 12 ~{I2} (in), 13 ~{I3} (in), 14 ~{Y3} (out), 15 NC, 16 VCC (power)

## CD74HC147M
designator U?
High Speed CMOS Logic 10-to-4 Line Priority Encoder, D0016A, TUBE; Generic Part Number: CD74HC147; Manufacturer: Texas Instruments; PartNumber: CD74HC147M; VCC(Min)(V): 2; VCC(Max)(V): 6; Function: Encoder/Multiplexer; ICC @ Nom Voltage(Max)(mA): 0.08; Input Type: LVTTL/CMOS; Bits(#): 10; F @ Nom Voltage(Max)(Mhz): 28; Configuration: 10：4; Channels(#): 1; Rating: Catalog; Technology Family: HC; Voltage(Nom)(V): 3.3,5; Schmitt Trigger: No; Output Drive (IOL/IOH)(Max)(mA): 5.2/-5.2; tpd @ Nom Voltage(Max)(ns): 32; DatasheetVersion: SCHS149F; PackageReference: D0016A; Supplier 1: Mouser; Supplier Part Number 1: 595-CD74HC147M; Supplier 2: Digi-Key; Supplier Part Number 2: 296-33024-5-ND; Output Type: CMOS; Operating Temperature Range(C): -55 to 125; Type: Standard; Code_JEDEC: MS-012 variation AC; ComponentLink1Description: Manufacturer URL; ComponentLink1URL: http://www.ti.com/; ComponentLink2Description: Datasheet; ComponentLink2URL: http://www.ti.com/lit/ds/symlink/cd74hc147.pdf; ComponentLink3Description: Package Specification; ComponentLink3URL: http://www.ti.com/lit/ml/mpds178g/mpds178g.pdf
footprint D0016A_N (SOIC, 16-Leads, Body 10x4mm, Pitch 1.27mm, IPC Medium Density)
footprint D0016A_M (SOIC, 16-Leads, Body 10x4mm, Pitch 1.27mm, IPC Low Density)
footprint D0016A_L (SOIC, 16-Leads, Body 10x4mm, Pitch 1.27mm, IPC High Density)
pins: 1 ~{I4} (in), 2 ~{I5} (in), 3 ~{I6} (in), 4 ~{I7} (in), 5 ~{I8} (in), 6 ~{Y2} (out), 7 ~{Y1} (out), 8 GND (power), 9 ~{Y0} (out), 10 ~{I9} (in), 11 ~{I1} (in), 12 ~{I2} (in), 13 ~{I3} (in), 14 ~{Y3} (out), 15 NC, 16 VCC (power)

## CD74HC147M96
designator U?
High Speed CMOS Logic 10-to-4 Line Priority Encoder, D0016A, LARGE T&R; Generic Part Number: CD74HC147; Manufacturer: Texas Instruments; PartNumber: CD74HC147M96; VCC(Min)(V): 2; VCC(Max)(V): 6; Function: Encoder/Multiplexer; ICC @ Nom Voltage(Max)(mA): 0.08; Input Type: LVTTL/CMOS; Bits(#): 10; F @ Nom Voltage(Max)(Mhz): 28; Configuration: 10：4; Channels(#): 1; Rating: Catalog; Technology Family: HC; Voltage(Nom)(V): 3.3,5; Schmitt Trigger: No; Output Drive (IOL/IOH)(Max)(mA): 5.2/-5.2; tpd @ Nom Voltage(Max)(ns): 32; DatasheetVersion: SCHS149F; PackageReference: D0016A; Supplier 1: Mouser; Supplier Part Number 1: 595-CD74HC147M96; Supplier 2: Digi-Key; Supplier Part Number 2: 296-41223-2-ND; Supplier 3: Digi-Key; Supplier Part Number 3: 296-41223-1-ND; Supplier 4: Digi-Key; Supplier Part Number 4: 296-41223-6-ND; Output Type: CMOS; Operating Temperature Range(C): -55 to 125; Type: Standard; Code_JEDEC: MS-012 variation AC; ComponentLink1Description: Manufacturer URL; ComponentLink1URL: http://www.ti.com/; ComponentLink2Description: Datasheet; ComponentLink2URL: http://www.ti.com/lit/ds/symlink/cd74hc147.pdf; ComponentLink3Description: Package Specification; ComponentLink3URL: http://www.ti.com/lit/ml/mpds178g/mpds178g.pdf
footprint D0016A_N (SOIC, 16-Leads, Body 10x4mm, Pitch 1.27mm, IPC Medium Density)
footprint D0016A_M (SOIC, 16-Leads, Body 10x4mm, Pitch 1.27mm, IPC Low Density)
footprint D0016A_L (SOIC, 16-Leads, Body 10x4mm, Pitch 1.27mm, IPC High Density)
pins: 1 ~{I4} (in), 2 ~{I5} (in), 3 ~{I6} (in), 4 ~{I7} (in), 5 ~{I8} (in), 6 ~{Y2} (out), 7 ~{Y1} (out), 8 GND (power), 9 ~{Y0} (out), 10 ~{I9} (in), 11 ~{I1} (in), 12 ~{I2} (in), 13 ~{I3} (in), 14 ~{Y3} (out), 15 NC, 16 VCC (power)

## CD74HC147MT
designator U?
High Speed CMOS Logic 10-to-4 Line Priority Encoder, D0016A, SMALL T&R; Generic Part Number: CD74HC147; Manufacturer: Texas Instruments; PartNumber: CD74HC147MT; VCC(Min)(V): 2; VCC(Max)(V): 6; Function: Encoder/Multiplexer; ICC @ Nom Voltage(Max)(mA): 0.08; Input Type: LVTTL/CMOS; Bits(#): 10; F @ Nom Voltage(Max)(Mhz): 28; Configuration: 10：4; Channels(#): 1; Rating: Catalog; Technology Family: HC; Voltage(Nom)(V): 3.3,5; Schmitt Trigger: No; Output Drive (IOL/IOH)(Max)(mA): 5.2/-5.2; tpd @ Nom Voltage(Max)(ns): 32; DatasheetVersion: SCHS149F; PackageReference: D0016A; Supplier 1: Mouser; Supplier Part Number 1: 595-CD74HC147MT; Supplier 2: Digi-Key; Supplier Part Number 2: CD74HC147MT-ND; Output Type: CMOS; Operating Temperature Range(C): -55 to 125; Type: Standard; Code_JEDEC: MS-012 variation AC; ComponentLink1Description: Manufacturer URL; ComponentLink1URL: http://www.ti.com/; ComponentLink2Description: Datasheet; ComponentLink2URL: http://www.ti.com/lit/ds/symlink/cd74hc147.pdf; ComponentLink3Description: Package Specification; ComponentLink3URL: http://www.ti.com/lit/ml/mpds178g/mpds178g.pdf
footprint D0016A_N (SOIC, 16-Leads, Body 10x4mm, Pitch 1.27mm, IPC Medium Density)
footprint D0016A_M (SOIC, 16-Leads, Body 10x4mm, Pitch 1.27mm, IPC Low Density)
footprint D0016A_L (SOIC, 16-Leads, Body 10x4mm, Pitch 1.27mm, IPC High Density)
pins: 1 ~{I4} (in), 2 ~{I5} (in), 3 ~{I6} (in), 4 ~{I7} (in), 5 ~{I8} (in), 6 ~{Y2} (out), 7 ~{Y1} (out), 8 GND (power), 9 ~{Y0} (out), 10 ~{I9} (in), 11 ~{I1} (in), 12 ~{I2} (in), 13 ~{I3} (in), 14 ~{Y3} (out), 15 NC, 16 VCC (power)

## CD74HC147PW
designator U?
High Speed CMOS Logic 10-to-4 Line Priority Encoder, PW0016A, TUBE; Generic Part Number: CD74HC147; Manufacturer: Texas Instruments; PartNumber: CD74HC147PW; VCC(Min)(V): 2; VCC(Max)(V): 6; Function: Encoder/Multiplexer; ICC @ Nom Voltage(Max)(mA): 0.08; Input Type: LVTTL/CMOS; Bits(#): 10; F @ Nom Voltage(Max)(Mhz): 28; Configuration: 10：4; Channels(#): 1; Rating: Catalog; Technology Family: HC; Voltage(Nom)(V): 3.3,5; Schmitt Trigger: No; Output Drive (IOL/IOH)(Max)(mA): 5.2/-5.2; tpd @ Nom Voltage(Max)(ns): 32; DatasheetVersion: SCHS149F; PackageReference: PW0016A; Supplier 1: Mouser; Supplier Part Number 1: 595-CD74HC147PW; Supplier 2: Digi-Key; Supplier Part Number 2: 296-33025-5-ND; Output Type: CMOS; Operating Temperature Range(C): -55 to 125; Type: Standard; Code_JEDEC: MO-153; ComponentLink1Description: Manufacturer URL; ComponentLink1URL: http://www.ti.com/; ComponentLink2Description: Datasheet; ComponentLink2URL: http://www.ti.com/lit/ds/symlink/cd74hc147.pdf; ComponentLink3Description: Package Specification; ComponentLink3URL: http://www.ti.com/lit/ml/mpds361/mpds361.pdf
footprint PW0016A_N (SOP, 16-Leads, Body 5.1x4.5mm, Pitch 0.65mm, IPC Medium Density)
footprint PW0016A_M (SOP, 16-Leads, Body 5.1x4.5mm, Pitch 0.65mm, IPC Low Density)
footprint PW0016A_L (SOP, 16-Leads, Body 5.1x4.5mm, Pitch 0.65mm, IPC High Density)
pins: 1 ~{I4} (in), 2 ~{I5} (in), 3 ~{I6} (in), 4 ~{I7} (in), 5 ~{I8} (in), 6 ~{Y2} (out), 7 ~{Y1} (out), 8 GND (power), 9 ~{Y0} (out), 10 ~{I9} (in), 11 ~{I1} (in), 12 ~{I2} (in), 13 ~{I3} (in), 14 ~{Y3} (out), 15 NC, 16 VCC (power)

## CD74HC147PWR
designator U?
High Speed CMOS Logic 10-to-4 Line Priority Encoder, PW0016A, LARGE T&R; Generic Part Number: CD74HC147; Manufacturer: Texas Instruments; PartNumber: CD74HC147PWR; VCC(Min)(V): 2; VCC(Max)(V): 6; Function: Encoder/Multiplexer; ICC @ Nom Voltage(Max)(mA): 0.08; Input Type: LVTTL/CMOS; Bits(#): 10; F @ Nom Voltage(Max)(Mhz): 28; Configuration: 10：4; Channels(#): 1; Rating: Catalog; Technology Family: HC; Voltage(Nom)(V): 3.3,5; Schmitt Trigger: No; Output Drive (IOL/IOH)(Max)(mA): 5.2/-5.2; tpd @ Nom Voltage(Max)(ns): 32; DatasheetVersion: SCHS149F; PackageReference: PW0016A; Supplier 1: Mouser; Supplier Part Number 1: 595-CD74HC147PWR; Supplier 2: Digi-Key; Supplier Part Number 2: 296-31566-2-ND; Supplier 3: Digi-Key; Supplier Part Number 3: 296-31566-1-ND; Supplier 4: Digi-Key; Supplier Part Number 4: 296-31566-6-ND; Output Type: CMOS; Operating Temperature Range(C): -55 to 125; Type: Standard; Code_JEDEC: MO-153; ComponentLink1Description: Manufacturer URL; ComponentLink1URL: http://www.ti.com/; ComponentLink2Description: Datasheet; ComponentLink2URL: http://www.ti.com/lit/ds/symlink/cd74hc147.pdf; ComponentLink3Description: Package Specification; ComponentLink3URL: http://www.ti.com/lit/ml/mpds361/mpds361.pdf
footprint PW0016A_N (SOP, 16-Leads, Body 5.1x4.5mm, Pitch 0.65mm, IPC Medium Density)
footprint PW0016A_M (SOP, 16-Leads, Body 5.1x4.5mm, Pitch 0.65mm, IPC Low Density)
footprint PW0016A_L (SOP, 16-Leads, Body 5.1x4.5mm, Pitch 0.65mm, IPC High Density)
pins: 1 ~{I4} (in), 2 ~{I5} (in), 3 ~{I6} (in), 4 ~{I7} (in), 5 ~{I8} (in), 6 ~{Y2} (out), 7 ~{Y1} (out), 8 GND (power), 9 ~{Y0} (out), 10 ~{I9} (in), 11 ~{I1} (in), 12 ~{I2} (in), 13 ~{I3} (in), 14 ~{Y3} (out), 15 NC, 16 VCC (power)

## CD74HC147PWT
designator U?
High Speed CMOS Logic 10-to-4 Line Priority Encoder, PW0016A, SMALL T&R; Generic Part Number: CD74HC147; Manufacturer: Texas Instruments; PartNumber: CD74HC147PWT; VCC(Min)(V): 2; VCC(Max)(V): 6; Function: Encoder/Multiplexer; ICC @ Nom Voltage(Max)(mA): 0.08; Input Type: LVTTL/CMOS; Bits(#): 10; F @ Nom Voltage(Max)(Mhz): 28; Configuration: 10：4; Channels(#): 1; Rating: Catalog; Technology Family: HC; Voltage(Nom)(V): 3.3,5; Schmitt Trigger: No; Output Drive (IOL/IOH)(Max)(mA): 5.2/-5.2; tpd @ Nom Voltage(Max)(ns): 32; DatasheetVersion: SCHS149F; PackageReference: PW0016A; Supplier 1: Mouser; Supplier Part Number 1: 595-CD74HC147PWT; Supplier 2: Digi-Key; Supplier Part Number 2: CD74HC147PWT-ND; Output Type: CMOS; Operating Temperature Range(C): -55 to 125; Type: Standard; Code_JEDEC: MO-153; ComponentLink1Description: Manufacturer URL; ComponentLink1URL: http://www.ti.com/; ComponentLink2Description: Datasheet; ComponentLink2URL: http://www.ti.com/lit/ds/symlink/cd74hc147.pdf; ComponentLink3Description: Package Specification; ComponentLink3URL: http://www.ti.com/lit/ml/mpds361/mpds361.pdf
footprint PW0016A_N (SOP, 16-Leads, Body 5.1x4.5mm, Pitch 0.65mm, IPC Medium Density)
footprint PW0016A_M (SOP, 16-Leads, Body 5.1x4.5mm, Pitch 0.65mm, IPC Low Density)
footprint PW0016A_L (SOP, 16-Leads, Body 5.1x4.5mm, Pitch 0.65mm, IPC High Density)
pins: 1 ~{I4} (in), 2 ~{I5} (in), 3 ~{I6} (in), 4 ~{I7} (in), 5 ~{I8} (in), 6 ~{Y2} (out), 7 ~{Y1} (out), 8 GND (power), 9 ~{Y0} (out), 10 ~{I9} (in), 11 ~{I1} (in), 12 ~{I2} (in), 13 ~{I3} (in), 14 ~{Y3} (out), 15 NC, 16 VCC (power)

## CD74HC151E
designator U?
High Speed CMOS Logic 8-Input Multiplexer, N0016A, TUBE; Generic Part Number: CD74HC151; Manufacturer: Texas Instruments; PartNumber: CD74HC151E; VCC(Min)(V): 2; VCC(Max)(V): 6; Function: Encoder/Multiplexer; ICC @ Nom Voltage(Max)(mA): 0.08; Input Type: LVTTL/CMOS; Bits(#): 8; F @ Nom Voltage(Max)(Mhz): 28; Configuration: 8：1; Channels(#): 1; Rating: Catalog; Technology Family: HC; Voltage(Nom)(V): 3.3,5; Schmitt Trigger: No; Output Drive (IOL/IOH)(Max)(mA): 5.2/-5.2; tpd @ Nom Voltage(Max)(ns): 43; DatasheetVersion: SCHS150C; PackageReference: N0016A; Supplier 1: Mouser; Supplier Part Number 1: 595-CD74HC151E; Supplier 2: Digi-Key; Supplier Part Number 2: 296-25973-5-ND; Output Type: CMOS; Operating Temperature Range(C): -55 to 125; Type: Standard; Code_JEDEC: MS-001; ComponentLink1Description: Manufacturer URL; ComponentLink1URL: http://www.ti.com/; ComponentLink2Description: Datasheet; ComponentLink2URL: http://www.ti.com/lit/ds/symlink/cd74hc151.pdf; ComponentLink3Description: Package Specification; ComponentLink3URL: http://www.ti.com/lit/ml/mpdi002c/mpdi002c.pdf
footprint N0016A (DIP, 16-Leads, Body 19.7x6.6mm, Pitch 2.54mm)
pins: 1 I3 (in), 2 I2 (in), 3 I1 (in), 4 I0 (in), 5 Y (out), 6 ~{Y} (out), 7 ~{E} (in), 8 GND (power), 9 S2 (in), 10 S1 (in), 11 S0 (in), 12 I7 (in), 13 I6 (in), 14 I5 (in), 15 I4 (in), 16 VCC (power)

## CD74HC151M
designator U?
High Speed CMOS Logic 8-Input Multiplexer, D0016A, TUBE; Generic Part Number: CD74HC151; Manufacturer: Texas Instruments; PartNumber: CD74HC151M; VCC(Min)(V): 2; VCC(Max)(V): 6; Function: Encoder/Multiplexer; ICC @ Nom Voltage(Max)(mA): 0.08; Input Type: LVTTL/CMOS; Bits(#): 8; F @ Nom Voltage(Max)(Mhz): 28; Configuration: 8：1; Channels(#): 1; Rating: Catalog; Technology Family: HC; Voltage(Nom)(V): 3.3,5; Schmitt Trigger: No; Output Drive (IOL/IOH)(Max)(mA): 5.2/-5.2; tpd @ Nom Voltage(Max)(ns): 43; DatasheetVersion: SCHS150C; PackageReference: D0016A; Supplier 1: Mouser; Supplier Part Number 1: 595-CD74HC151M; Supplier 2: Digi-Key; Supplier Part Number 2: 296-33027-5-ND; Output Type: CMOS; Operating Temperature Range(C): -55 to 125; Type: Standard; Code_JEDEC: MS-012 variation AC; ComponentLink1Description: Manufacturer URL; ComponentLink1URL: http://www.ti.com/; ComponentLink2Description: Datasheet; ComponentLink2URL: http://www.ti.com/lit/ds/symlink/cd74hc151.pdf; ComponentLink3Description: Package Specification; ComponentLink3URL: http://www.ti.com/lit/ml/mpds178g/mpds178g.pdf
footprint D0016A_N (SOIC, 16-Leads, Body 10x4mm, Pitch 1.27mm, IPC Medium Density)
footprint D0016A_M (SOIC, 16-Leads, Body 10x4mm, Pitch 1.27mm, IPC Low Density)
footprint D0016A_L (SOIC, 16-Leads, Body 10x4mm, Pitch 1.27mm, IPC High Density)
pins: 1 I3 (in), 2 I2 (in), 3 I1 (in), 4 I0 (in), 5 Y (out), 6 ~{Y} (out), 7 ~{E} (in), 8 GND (power), 9 S2 (in), 10 S1 (in), 11 S0 (in), 12 I7 (in), 13 I6 (in), 14 I5 (in), 15 I4 (in), 16 VCC (power)

## CD74HC151M96
designator U?
High Speed CMOS Logic 8-Input Multiplexer, D0016A, LARGE T&R; Generic Part Number: CD74HC151; Manufacturer: Texas Instruments; PartNumber: CD74HC151M96; VCC(Min)(V): 2; VCC(Max)(V): 6; Function: Encoder/Multiplexer; ICC @ Nom Voltage(Max)(mA): 0.08; Input Type: LVTTL/CMOS; Bits(#): 8; F @ Nom Voltage(Max)(Mhz): 28; Configuration: 8：1; Channels(#): 1; Rating: Catalog; Technology Family: HC; Voltage(Nom)(V): 3.3,5; Schmitt Trigger: No; Output Drive (IOL/IOH)(Max)(mA): 5.2/-5.2; tpd @ Nom Voltage(Max)(ns): 43; DatasheetVersion: SCHS150C; PackageReference: D0016A; Supplier 1: Mouser; Supplier Part Number 1: 595-CD74HC151M96; Supplier 2: Digi-Key; Supplier Part Number 2: 296-12787-2-ND; Supplier 3: Digi-Key; Supplier Part Number 3: 296-12787-1-ND; Supplier 4: Digi-Key; Supplier Part Number 4: 296-12787-6-ND; Output Type: CMOS; Operating Temperature Range(C): -55 to 125; Type: Standard; Code_JEDEC: MS-012 variation AC; ComponentLink1Description: Manufacturer URL; ComponentLink1URL: http://www.ti.com/; ComponentLink2Description: Datasheet; ComponentLink2URL: http://www.ti.com/lit/ds/symlink/cd74hc151.pdf; ComponentLink3Description: Package Specification; ComponentLink3URL: http://www.ti.com/lit/ml/mpds178g/mpds178g.pdf
footprint D0016A_N (SOIC, 16-Leads, Body 10x4mm, Pitch 1.27mm, IPC Medium Density)
footprint D0016A_M (SOIC, 16-Leads, Body 10x4mm, Pitch 1.27mm, IPC Low Density)
footprint D0016A_L (SOIC, 16-Leads, Body 10x4mm, Pitch 1.27mm, IPC High Density)
pins: 1 I3 (in), 2 I2 (in), 3 I1 (in), 4 I0 (in), 5 Y (out), 6 ~{Y} (out), 7 ~{E} (in), 8 GND (power), 9 S2 (in), 10 S1 (in), 11 S0 (in), 12 I7 (in), 13 I6 (in), 14 I5 (in), 15 I4 (in), 16 VCC (power)

## CD74HC151MT
designator U?
High Speed CMOS Logic 8-Input Multiplexer, D0016A, SMALL T&R; Generic Part Number: CD74HC151; Manufacturer: Texas Instruments; PartNumber: CD74HC151MT; VCC(Min)(V): 2; VCC(Max)(V): 6; Function: Encoder/Multiplexer; ICC @ Nom Voltage(Max)(mA): 0.08; Input Type: LVTTL/CMOS; Bits(#): 8; F @ Nom Voltage(Max)(Mhz): 28; Configuration: 8：1; Channels(#): 1; Rating: Catalog; Technology Family: HC; Voltage(Nom)(V): 3.3,5; Schmitt Trigger: No; Output Drive (IOL/IOH)(Max)(mA): 5.2/-5.2; tpd @ Nom Voltage(Max)(ns): 43; DatasheetVersion: SCHS150C; PackageReference: D0016A; Supplier 1: Mouser; Supplier Part Number 1: 595-CD74HC151MT; Supplier 2: Digi-Key; Supplier Part Number 2: CD74HC151MT-ND; Output Type: CMOS; Operating Temperature Range(C): -55 to 125; Type: Standard; Code_JEDEC: MS-012 variation AC; ComponentLink1Description: Manufacturer URL; ComponentLink1URL: http://www.ti.com/; ComponentLink2Description: Datasheet; ComponentLink2URL: http://www.ti.com/lit/ds/symlink/cd74hc151.pdf; ComponentLink3Description: Package Specification; ComponentLink3URL: http://www.ti.com/lit/ml/mpds178g/mpds178g.pdf
footprint D0016A_N (SOIC, 16-Leads, Body 10x4mm, Pitch 1.27mm, IPC Medium Density)
footprint D0016A_M (SOIC, 16-Leads, Body 10x4mm, Pitch 1.27mm, IPC Low Density)
footprint D0016A_L (SOIC, 16-Leads, Body 10x4mm, Pitch 1.27mm, IPC High Density)
pins: 1 I3 (in), 2 I2 (in), 3 I1 (in), 4 I0 (in), 5 Y (out), 6 ~{Y} (out), 7 ~{E} (in), 8 GND (power), 9 S2 (in), 10 S1 (in), 11 S0 (in), 12 I7 (in), 13 I6 (in), 14 I5 (in), 15 I4 (in), 16 VCC (power)

## CD74HC153E
designator U?
High Speed CMOS Logic Dual 4-Input Multiplexers, N0016A, TUBE; Generic Part Number: CD74HC153; Manufacturer: Texas Instruments; PartNumber: CD74HC153E; VCC(Min)(V): 2; VCC(Max)(V): 6; Function: Encoder/Multiplexer; ICC @ Nom Voltage(Max)(mA): 0.08; Input Type: LVTTL/CMOS; Bits(#): 4; F @ Nom Voltage(Max)(Mhz): 28; Configuration: 4：1; Rating: Catalog; Technology Family: HC; Voltage(Nom)(V): 3.3,5; Schmitt Trigger: No; Output Drive (IOL/IOH)(Max)(mA): 5.2/-5.2; tpd @ Nom Voltage(Max)(ns): 40; DatasheetVersion: SCHS151C; PackageReference: N0016A; Supplier 1: Mouser; Supplier Part Number 1: 595-CD74HC153E; Supplier 2: Digi-Key; Supplier Part Number 2: 296-33028-5-ND; Output Type: CMOS; Operating Temperature Range(C): -55 to 125; Type: Standard; Channels(#): 2; Code_JEDEC: MS-001; ComponentLink1Description: Manufacturer URL; ComponentLink1URL: http://www.ti.com/; ComponentLink2Description: Datasheet; ComponentLink2URL: http://www.ti.com/lit/ds/symlink/cd74hc153.pdf; ComponentLink3Description: Package Specification; ComponentLink3URL: http://www.ti.com/lit/ml/mpdi002c/mpdi002c.pdf
footprint N0016A (DIP, 16-Leads, Body 19.7x6.6mm, Pitch 2.54mm)
pins: 1 ~{1E} (in), 2 S1 (in), 3 1I3 (in), 4 1I2 (in), 5 1I1 (in), 6 1I0 (in), 7 1Y (out), 8 GND (power), 9 2Y (out), 10 2I0 (in), 11 2I1 (in), 12 2I2 (in), 13 2I3 (in), 14 S0 (in), 15 ~{2E} (in), 16 VCC (power)

## CD74HC153M
designator U?
High Speed CMOS Logic Dual 4-Input Multiplexers, D0016A, TUBE; Generic Part Number: CD74HC153; Manufacturer: Texas Instruments; PartNumber: CD74HC153M; VCC(Min)(V): 2; VCC(Max)(V): 6; Function: Encoder/Multiplexer; ICC @ Nom Voltage(Max)(mA): 0.08; Input Type: LVTTL/CMOS; Bits(#): 4; F @ Nom Voltage(Max)(Mhz): 28; Configuration: 4：1; Rating: Catalog; Technology Family: HC; Voltage(Nom)(V): 3.3,5; Schmitt Trigger: No; Output Drive (IOL/IOH)(Max)(mA): 5.2/-5.2; tpd @ Nom Voltage(Max)(ns): 40; DatasheetVersion: SCHS151C; PackageReference: D0016A; Supplier 1: Mouser; Supplier Part Number 1: 595-CD74HC153M; Supplier 2: Digi-Key; Supplier Part Number 2: 296-33029-5-ND; Output Type: CMOS; Operating Temperature Range(C): -55 to 125; Type: Standard; Channels(#): 2; Code_JEDEC: MS-012 variation AC; ComponentLink1Description: Manufacturer URL; ComponentLink1URL: http://www.ti.com/; ComponentLink2Description: Datasheet; ComponentLink2URL: http://www.ti.com/lit/ds/symlink/cd74hc153.pdf; ComponentLink3Description: Package Specification; ComponentLink3URL: http://www.ti.com/lit/ml/mpds178g/mpds178g.pdf
footprint D0016A_N (SOIC, 16-Leads, Body 10x4mm, Pitch 1.27mm, IPC Medium Density)
footprint D0016A_M (SOIC, 16-Leads, Body 10x4mm, Pitch 1.27mm, IPC Low Density)
footprint D0016A_L (SOIC, 16-Leads, Body 10x4mm, Pitch 1.27mm, IPC High Density)
pins: 1 ~{1E} (in), 2 S1 (in), 3 1I3 (in), 4 1I2 (in), 5 1I1 (in), 6 1I0 (in), 7 1Y (out), 8 GND (power), 9 2Y (out), 10 2I0 (in), 11 2I1 (in), 12 2I2 (in), 13 2I3 (in), 14 S0 (in), 15 ~{2E} (in), 16 VCC (power)